# EAGLE library part DRV8825-SLOT (library home-mind)
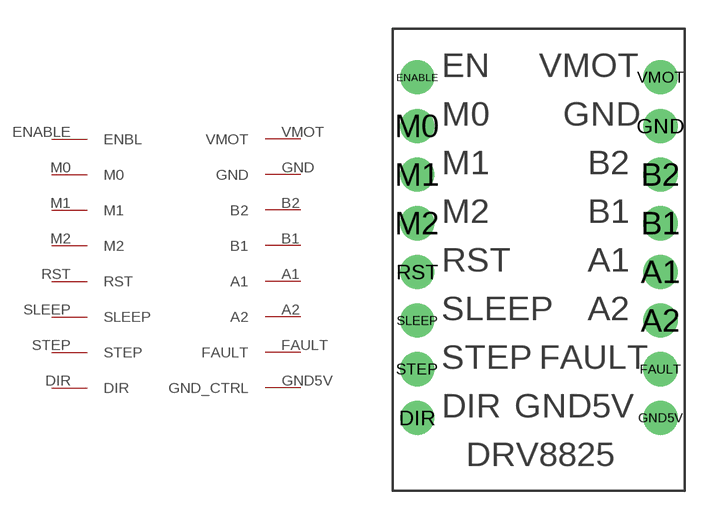
[diagram p8: symbol with the pads of DRV8825-SLOT; footprint DRV8825-SLOT]

Designator prefix -

## DRV8825-SLOT  [DRV8825-SLOT]
A1  A1
A2  A2
B1  B1
B2  B2
DIR  DIR
ENABLE  ENBL
FAULT  FAULT
GND  GND
GND5V  GND_CTRL
M0  M0
M1  M1
M2  M2
RST  RST
SLEEP  SLEEP
STEP  STEP
VMOT  VMOT

## Footprint DRV8825-SLOT (pad centres in mm)
drill 0.9 pad 1.778: A1 6.35,-1.27; A2 6.35,-3.81; B1 6.35,1.27; B2 6.35,3.81; DIR -6.35,-8.89; ENABLE -6.35,8.89; FAULT 6.35,-6.35; GND 6.35,6.35; GND5V 6.35,-8.89; M0 -6.35,6.35; M1 -6.35,3.81; M2 -6.35,1.27; RST -6.35,-1.27; SLEEP -6.35,-3.81; STEP -6.35,-6.35; VMOT 6.35,8.89